# Altium schematic symbol library Debuger.SchLib: 3 symbols
Pins are listed as number, name and electrical type; pins without a type are passive.

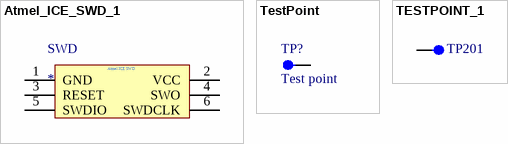
[diagram p0: symbols Atmel_ICE_SWD_1 to TESTPOINT_1]

## Atmel_ICE_SWD_1
designator SWD  (no BOM)
pins: 1 GND, 2 VCC, 3 RESET, 4 SWO, 5 SWDIO, 6 SWDCLK
text: Atmel ICE SWD

## TestPoint
designator TP?, comment Test point  (no BOM)
pins: 1

## TESTPOINT_1
designator TP201  (no BOM)
Single SMD testpad; PartGroup: Mechanical devices,Connectors,Test points; AN: A08-0004; Value: TESTPAD; Height: 0
footprint AP8-00010
pins: 1